# EAGLE library part FDG6303N (library transistor-fet)
Fairchild Dual N Channel MOSFET In SC-70 Small signal MOSFETs
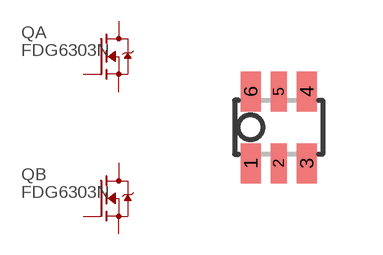
[diagram p4: symbol with the pads of SC70; footprint SC70]

Designator prefix Q; gates A=N-MOSFET B=N-MOSFET

## FDG6303N  [SC70]
1  B:S  pas
2  B:G  pas
3  A:D  pas
4  A:S  pas
5  A:G  pas
6  B:D  pas

## Footprint SC70 (pad centres in mm)
smd 0.5 x 1: 1 -0.7,-0.9; 3 0.7,-0.9; 4 0.7,0.9; 6 -0.7,0.9
smd 0.4 x 1: 2 0,-0.9; 5 0,0.9